# Altium footprint library RELAY_SPDT.PcbLib: 1 footprints
Each footprint in its own frame and in the unit in brackets; x right, y up, seen from the top. Pads: shape width x height; smd on the part's side, far side on the other; paste and mask are expansions set on the pad; w line width, h text height; cw(c..) or ccw(c..) is an arc to the next point about the centre after c.
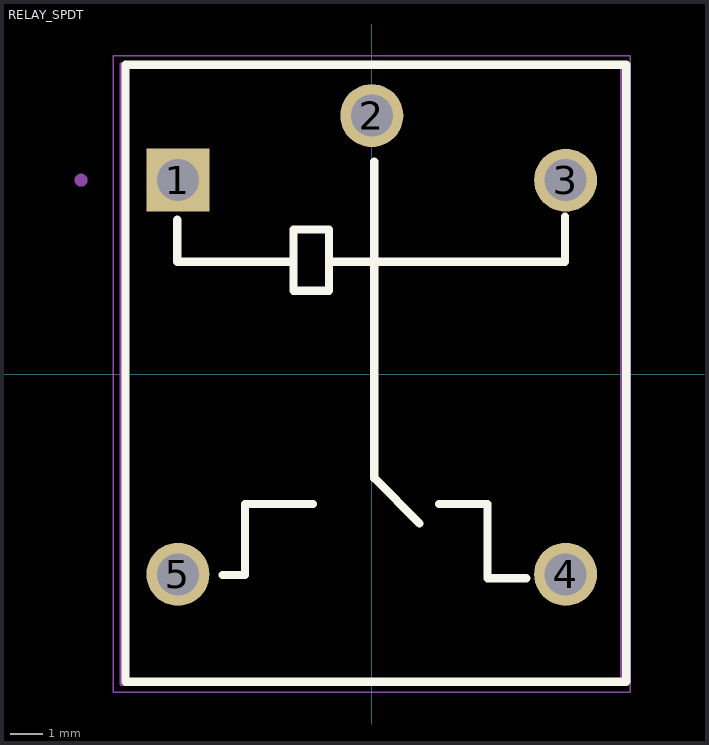
[diagram p0: the footprint, top view; thin cyan lines are the x and y axes]

## RELAY_SPDT [mm]
pads (5):
  rect 1.95x1.95 hole 1.3: 1(-6,6)
  round 1.95 hole 1.3: 2(0,8) 3(6,6) 4(6,-6.2) 5(-6,-6.2)
Top Overlay:
  lines w0.254: -6.02,4.775 -6.02,3.475 -2.42,3.475 ; -4.62,-6.225 -3.92,-6.225 -3.92,-4.025 -1.82,-4.025 ; -1.22,3.475 5.98,3.475 5.98,4.875 ; 0.08,6.575 0.08,-3.225 ; 1.48,-4.625 0.08,-3.225 ; 2.08,-4.025 3.58,-4.025 3.58,-6.325 4.78,-6.325 ; 0.08,-3.225 0.08,-3.225 ; -7.62,-9.525 7.88,-9.525 7.88,9.575 -7.62,9.575 -7.62,-9.525 ; -2.42,2.575 -1.32,2.575 -1.32,4.475 -2.42,4.475 -2.42,2.575
Mechanical 13:
  circle w0.2: c-9,6 r0.1
  lines w0.127: -7.75,-9.6 7.75,-9.6 7.75,9.6 -7.75,9.6 -7.75,-9.6
Mechanical 15:
  lines w0.05: -8,-9.85 8,-9.85 8,9.85 -8,9.85 -8,-9.85
3D body "relay_SPDT.stp": height 15.7, standoff -3, extent -7.75,-9.346 7.75,9.854